# Altium schematic symbol library BA50DD0WHFP-TR Linear Voltage Regulators 5.SchLib: 1 symbol
Pins are listed as number, name and electrical type; pins without a type are passive.

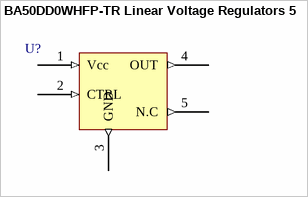
[diagram p0: symbol BA50DD0WHFP-TR Linear Voltage Regulators 5]

## BA50DD0WHFP-TR Linear Voltage Regulators 5
designator U?
pins: 1 Vcc (in), 2 CTRL (in), 3 GND (out), 4 OUT (out), 5 N.C (out)